# Altium footprint library BasovD_Lab02.PcbLib: 4 footprints
Each footprint in its own frame and in the unit in brackets; x right, y up, seen from the top. Pads: shape width x height; smd on the part's side, far side on the other; paste and mask are expansions set on the pad; w line width, h text height; cw(c..) or ccw(c..) is an arc to the next point about the centre after c.
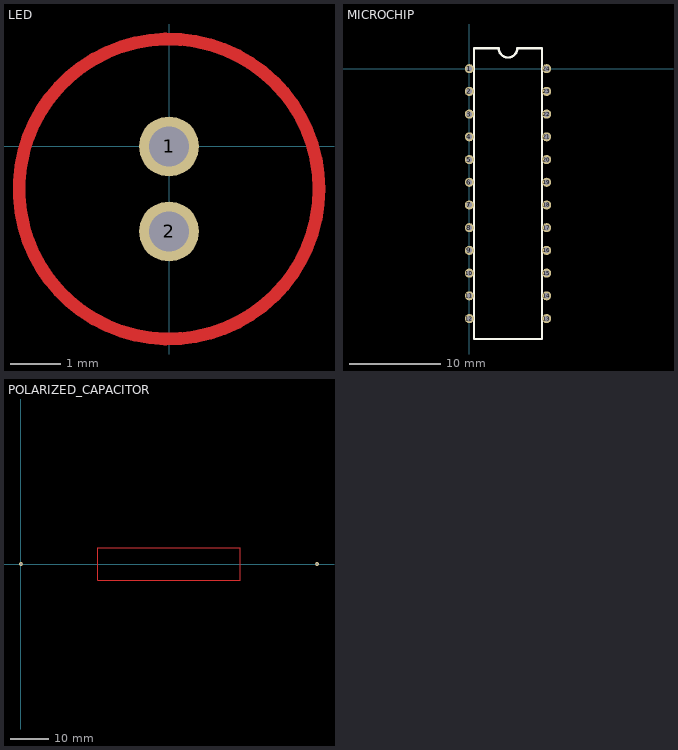
[diagram p0: the footprints below, top view; thin cyan lines are the x and y axes]

## LED [mm]
pads (2):
  round 1.2 hole 0.8: 1(0,0) 2(0,-1.7)
Top Layer:
  circle w0.254: c0,-0.85 r3

## MICROCHIP [mm]
pads (24):
  round 1 hole 0.6: 1(0,0) 2(0,-2.5) 3(0,-5) 4(0,-7.5) 5(0,-10) 6(0,-12.5) 7(0,-15) 8(0,-17.5) 9(0,-20) 10(0,-22.5) 11(0,-25) 12(0,-27.5) 13(8.5,-27.5) 14(8.5,-25) 15(8.5,-22.5) 16(8.5,-20) 17(8.5,-17.5) 18(8.5,-15) 19(8.5,-12.5) 20(8.5,-10) 21(8.5,-7.5) 22(8.5,-5) 23(8.5,-2.5) 24(8.5,0)
Top Overlay:
  lines w0.254: 0.5,-29.75 8,-29.75 8,2.25 5.266,2.25 cw(c4.25,2.25) 3.234,2.25 0.5,2.25 0.5,-29.75

## PCBComponent_1 [mm]

## POLARIZED_CAPACITOR [mm]
pads (2):
  round 1 hole 0.5: 1(0,0) 2(77,0)
Top Layer:
  lines w0.1: 20,-4.25 57,-4.25 57,0 57,4.25 20,4.25 20,0 20,-4.25